# Altium schematic symbol library 61304011121-6.SchLib: 1 symbol
Pins are listed as number, name and electrical type; pins without a type are passive.

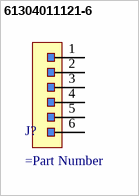
[diagram p0: symbol 61304011121-6]

## 61304011121-6
designator J?
=Description; ComponentLink1Description: Datasheet; ComponentLink1URL: https://www.mouser.ca/datasheet/2/445/61304011121-1718151.pdf; Parameter 1: *
pins: 1, 2, 3, 4, 5, 6